# EAGLE library part OSD3358-PARTS (library OSD3358-BAS-2)
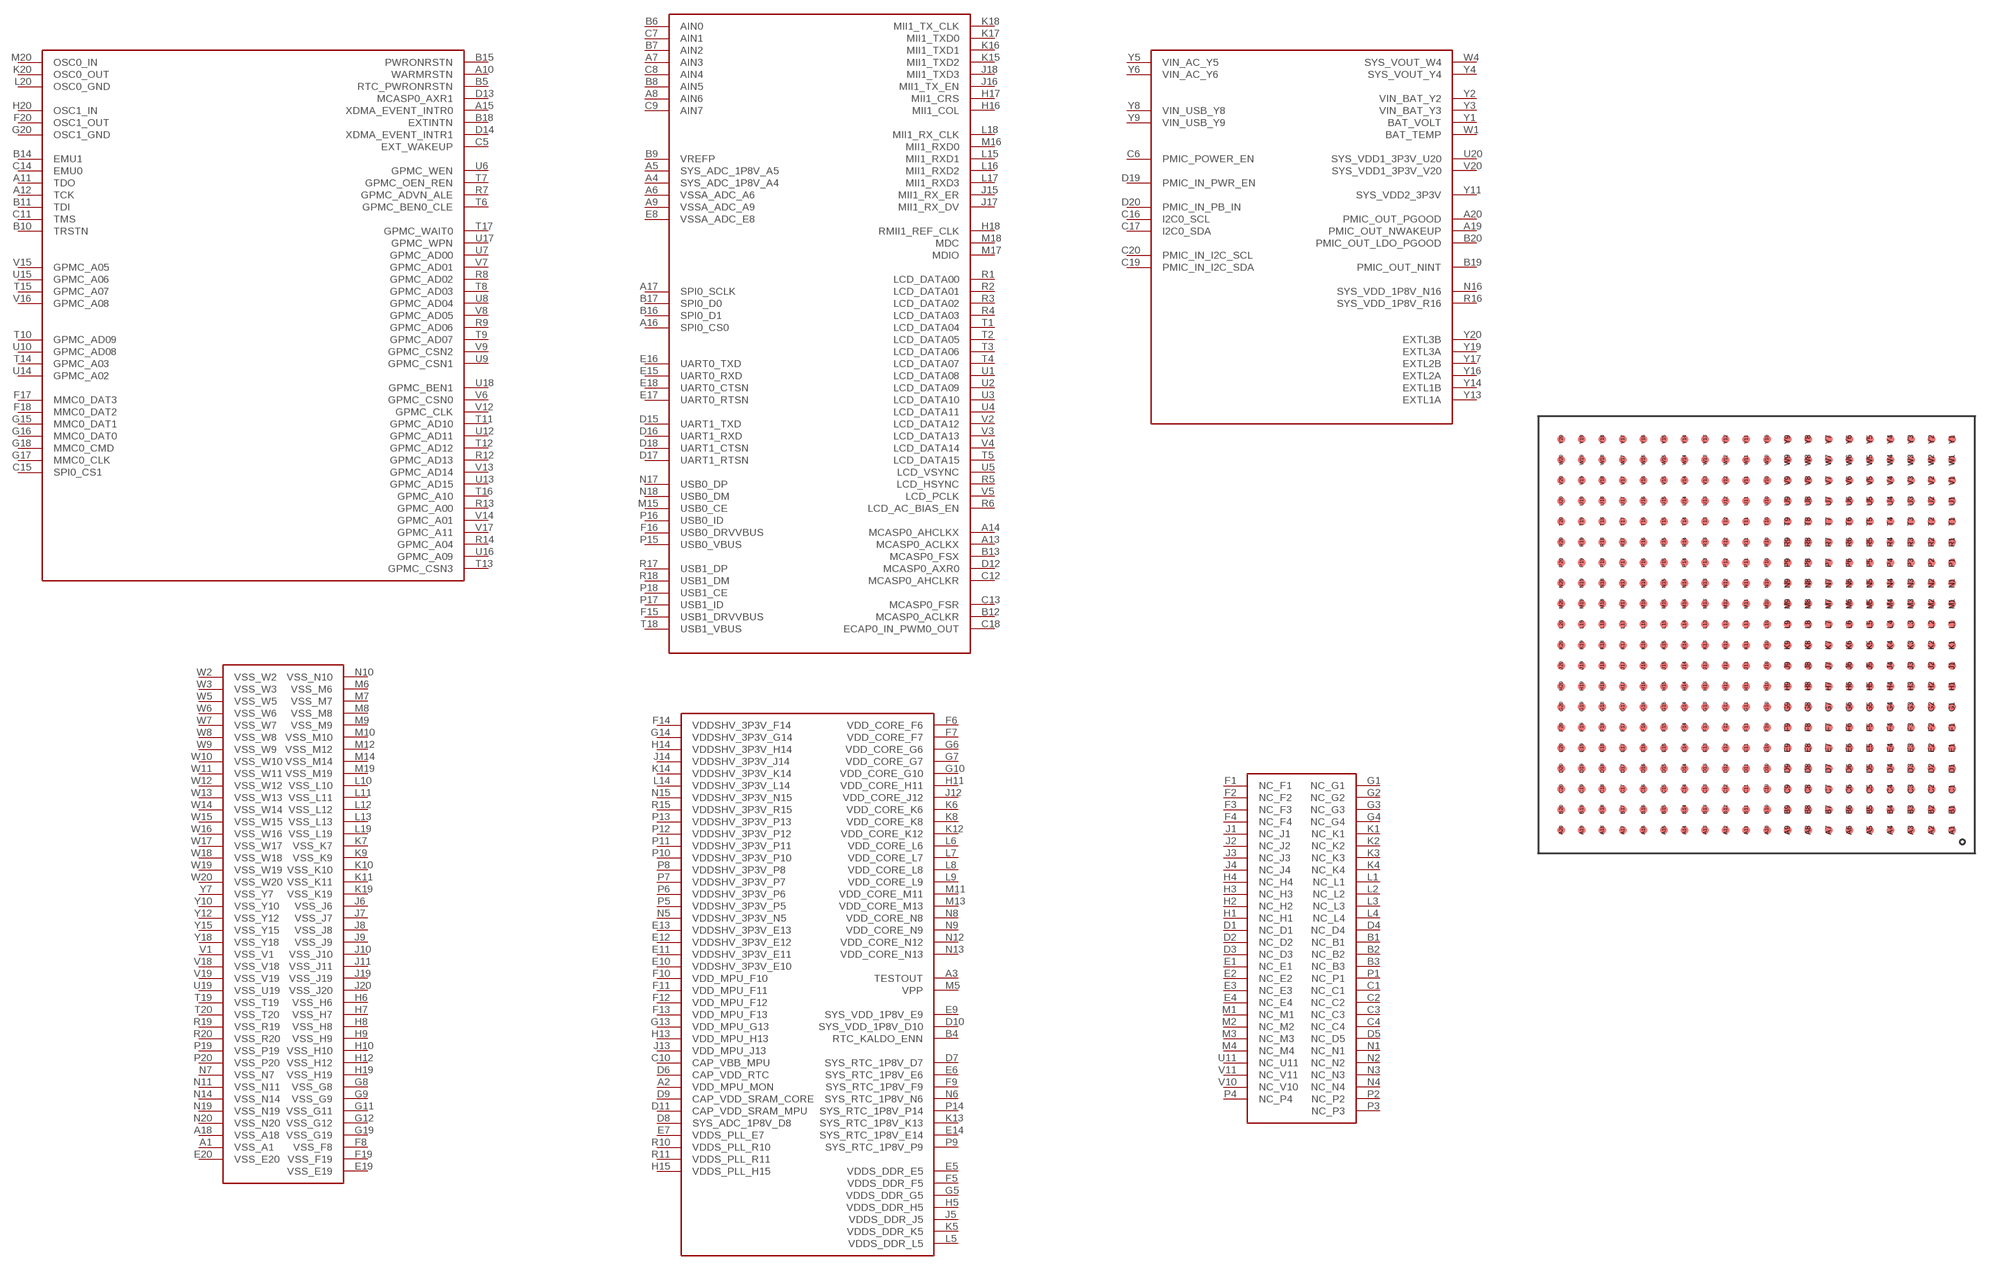
[diagram p1: symbol with the pads of BGA400; footprint BGA400]

Designator prefix -; gates G$1=OSD3358-A G$2=OSD3358-B G$3=OSD3358-C G$4=OSD3358-D G$5=OSD3358-E G$6=OSD3358-F

## OSD3358-PARTS  [BGA400]
A1  G$4:VSS_A1
A2  G$5:VDD_MPU_MON
A3  G$5:TESTOUT
A4  G$2:SYS_ADC_1P8V_A4
A5  G$2:SYS_ADC_1P8V_A5
A6  G$2:VSSA_ADC_A6
A7  G$2:AIN3
A8  G$2:AIN6
A9  G$2:VSSA_ADC_A9
A10  G$1:WARMRSTN
A11  G$1:TDO
A12  G$1:TCK
A13  G$2:MCASP0_ACLKX
A14  G$2:MCASP0_AHCLKX
A15  G$1:XDMA_EVENT_INTR0
A16  G$2:SPI0_CS0
A17  G$2:SPI0_SCLK
A18  G$4:VSS_A18
A19  G$3:PMIC_OUT_NWAKEUP
A20  G$3:PMIC_OUT_PGOOD
B1  G$6:NC_B1
B2  G$6:NC_B2
B3  G$6:NC_B3
B4  G$5:RTC_KALDO_ENN
B5  G$1:RTC_PWRONRSTN
B6  G$2:AIN0
B7  G$2:AIN2
B8  G$2:AIN5
B9  G$2:VREFP
B10  G$1:TRSTN
B11  G$1:TDI
B12  G$2:MCASP0_ACLKR
B13  G$2:MCASP0_FSX
B14  G$1:EMU1
B15  G$1:PWRONRSTN
B16  G$2:SPI0_D1
B17  G$2:SPI0_D0
B18  G$1:EXTINTN
B19  G$3:PMIC_OUT_NINT
B20  G$3:PMIC_OUT_LDO_PGOOD
C1  G$6:NC_C1
C2  G$6:NC_C2
C3  G$6:NC_C3
C4  G$6:NC_C4
C5  G$1:EXT_WAKEUP
C6  G$3:PMIC_POWER_EN
C7  G$2:AIN1
C8  G$2:AIN4
C9  G$2:AIN7
C10  G$5:CAP_VBB_MPU
C11  G$1:TMS
C12  G$2:MCASP0_AHCLKR
C13  G$2:MCASP0_FSR
C14  G$1:EMU0
C15  G$1:SPI0_CS1
C16  G$3:I2C0_SCL
C17  G$3:I2C0_SDA
C18  G$2:ECAP0_IN_PWM0_OUT
C19  G$3:PMIC_IN_I2C_SDA
C20  G$3:PMIC_IN_I2C_SCL
D1  G$6:NC_D1
D2  G$6:NC_D2
D3  G$6:NC_D3
D4  G$6:NC_D4
D5  G$6:NC_D5
D6  G$5:CAP_VDD_RTC
D7  G$5:SYS_RTC_1P8V_D7
D8  G$5:SYS_ADC_1P8V_D8
D9  G$5:CAP_VDD_SRAM_CORE
D10  G$5:SYS_VDD_1P8V_D10
D11  G$5:CAP_VDD_SRAM_MPU
D12  G$2:MCASP0_AXR0
D13  G$1:MCASP0_AXR1
D14  G$1:XDMA_EVENT_INTR1
D15  G$2:UART1_TXD
D16  G$2:UART1_RXD
D17  G$2:UART1_RTSN
D18  G$2:UART1_CTSN
D19  G$3:PMIC_IN_PWR_EN
D20  G$3:PMIC_IN_PB_IN
E1  G$6:NC_E1
E2  G$6:NC_E2
E3  G$6:NC_E3
E4  G$6:NC_E4
E5  G$5:VDDS_DDR_E5
E6  G$5:SYS_RTC_1P8V_E6
E7  G$5:VDDS_PLL_E7
E8  G$2:VSSA_ADC_E8
E9  G$5:SYS_VDD_1P8V_E9
E10  G$5:VDDSHV_3P3V_E10
E11  G$5:VDDSHV_3P3V_E11
E12  G$5:VDDSHV_3P3V_E12
E13  G$5:VDDSHV_3P3V_E13
E14  G$5:SYS_RTC_1P8V_E14
E15  G$2:UART0_RXD
E16  G$2:UART0_TXD
E17  G$2:UART0_RTSN
E18  G$2:UART0_CTSN
E19  G$4:VSS_E19
E20  G$4:VSS_E20
F1  G$6:NC_F1
F2  G$6:NC_F2
F3  G$6:NC_F3
F4  G$6:NC_F4
F5  G$5:VDDS_DDR_F5
F6  G$5:VDD_CORE_F6
F7  G$5:VDD_CORE_F7
F8  G$4:VSS_F8
F9  G$5:SYS_RTC_1P8V_F9
F10  G$5:VDD_MPU_F10
F11  G$5:VDD_MPU_F11
F12  G$5:VDD_MPU_F12
F13  G$5:VDD_MPU_F13
F14  G$5:VDDSHV_3P3V_F14
F15  G$2:USB1_DRVVBUS
F16  G$2:USB0_DRVVBUS
F17  G$1:MMC0_DAT3
F18  G$1:MMC0_DAT2
F19  G$4:VSS_F19
F20  G$1:OSC1_OUT
G1  G$6:NC_G1
G2  G$6:NC_G2
G3  G$6:NC_G3
G4  G$6:NC_G4
G5  G$5:VDDS_DDR_G5
G6  G$5:VDD_CORE_G6
G7  G$5:VDD_CORE_G7
G8  G$4:VSS_G8
G9  G$4:VSS_G9
G10  G$5:VDD_CORE_G10
G11  G$4:VSS_G11
G12  G$4:VSS_G12
G13  G$5:VDD_MPU_G13
G14  G$5:VDDSHV_3P3V_G14
G15  G$1:MMC0_DAT1
G16  G$1:MMC0_DAT0
G17  G$1:MMC0_CLK
G18  G$1:MMC0_CMD
G19  G$4:VSS_G19
G20  G$1:OSC1_GND
H1  G$6:NC_H1
H2  G$6:NC_H2
H3  G$6:NC_H3
H4  G$6:NC_H4
H5  G$5:VDDS_DDR_H5
H6  G$4:VSS_H6
H7  G$4:VSS_H7
H8  G$4:VSS_H8
H9  G$4:VSS_H9
H10  G$4:VSS_H10
H11  G$5:VDD_CORE_H11
H12  G$4:VSS_H12
H13  G$5:VDD_MPU_H13
H14  G$5:VDDSHV_3P3V_H14
H15  G$5:VDDS_PLL_H15
H16  G$2:MII1_COL
H17  G$2:MII1_CRS
H18  G$2:RMII1_REF_CLK
H19  G$4:VSS_H19
H20  G$1:OSC1_IN
J1  G$6:NC_J1
J2  G$6:NC_J2
J3  G$6:NC_J3
J4  G$6:NC_J4
J5  G$5:VDDS_DDR_J5
J6  G$4:VSS_J6
J7  G$4:VSS_J7
J8  G$4:VSS_J8
J9  G$4:VSS_J9
J10  G$4:VSS_J10
J11  G$4:VSS_J11
J12  G$5:VDD_CORE_J12
J13  G$5:VDD_MPU_J13
J14  G$5:VDDSHV_3P3V_J14
J15  G$2:MII1_RX_ER
J16  G$2:MII1_TX_EN
J17  G$2:MII1_RX_DV
J18  G$2:MII1_TXD3
J19  G$4:VSS_J19
J20  G$4:VSS_J20
K1  G$6:NC_K1
K2  G$6:NC_K2
K3  G$6:NC_K3
K4  G$6:NC_K4
K5  G$5:VDDS_DDR_K5
K6  G$5:VDD_CORE_K6
K7  G$4:VSS_K7
K8  G$5:VDD_CORE_K8
K9  G$4:VSS_K9
K10  G$4:VSS_K10
K11  G$4:VSS_K11
K12  G$5:VDD_CORE_K12
K13  G$5:SYS_RTC_1P8V_K13
K14  G$5:VDDSHV_3P3V_K14
K15  G$2:MII1_TXD2
K16  G$2:MII1_TXD1
K17  G$2:MII1_TXD0
K18  G$2:MII1_TX_CLK
K19  G$4:VSS_K19
K20  G$1:OSC0_OUT
L1  G$6:NC_L1
L2  G$6:NC_L2
L3  G$6:NC_L3
L4  G$6:NC_L4
L5  G$5:VDDS_DDR_L5
L6  G$5:VDD_CORE_L6
L7  G$5:VDD_CORE_L7
L8  G$5:VDD_CORE_L8
L9  G$5:VDD_CORE_L9
L10  G$4:VSS_L10
L11  G$4:VSS_L11
L12  G$4:VSS_L12
L13  G$4:VSS_L13
L14  G$5:VDDSHV_3P3V_L14
L15  G$2:MII1_RXD1
L16  G$2:MII1_RXD2
L17  G$2:MII1_RXD3
L18  G$2:MII1_RX_CLK
L19  G$4:VSS_L19
L20  G$1:OSC0_GND
M1  G$6:NC_M1
M2  G$6:NC_M2
M3  G$6:NC_M3
M4  G$6:NC_M4
M5  G$5:VPP
M6  G$4:VSS_M6
M7  G$4:VSS_M7
M8  G$4:VSS_M8
M9  G$4:VSS_M9
M10  G$4:VSS_M10
M11  G$5:VDD_CORE_M11
M12  G$4:VSS_M12
M13  G$5:VDD_CORE_M13
M14  G$4:VSS_M14
M15  G$2:USB0_CE
M16  G$2:MII1_RXD0
M17  G$2:MDIO
M18  G$2:MDC
M19  G$4:VSS_M19
M20  G$1:OSC0_IN
N1  G$6:NC_N1
N2  G$6:NC_N2
N3  G$6:NC_N3
N4  G$6:NC_N4
N5  G$5:VDDSHV_3P3V_N5
N6  G$5:SYS_RTC_1P8V_N6
N7  G$4:VSS_N7
N8  G$5:VDD_CORE_N8
N9  G$5:VDD_CORE_N9
N10  G$4:VSS_N10
N11  G$4:VSS_N11
N12  G$5:VDD_CORE_N12
N13  G$5:VDD_CORE_N13
N14  G$4:VSS_N14
N15  G$5:VDDSHV_3P3V_N15
N16  G$3:SYS_VDD_1P8V_N16
N17  G$2:USB0_DP
N18  G$2:USB0_DM
N19  G$4:VSS_N19
N20  G$4:VSS_N20
P1  G$6:NC_P1
P2  G$6:NC_P2
P3  G$6:NC_P3
P4  G$6:NC_P4
P5  G$5:VDDSHV_3P3V_P5
P6  G$5:VDDSHV_3P3V_P6
P7  G$5:VDDSHV_3P3V_P7
P8  G$5:VDDSHV_3P3V_P8
P9  G$5:SYS_RTC_1P8V_P9
P10  G$5:VDDSHV_3P3V_P10
P11  G$5:VDDSHV_3P3V_P11
P12  G$5:VDDSHV_3P3V_P12
P13  G$5:VDDSHV_3P3V_P13
P14  G$5:SYS_RTC_1P8V_P14
P15  G$2:USB0_VBUS
P16  G$2:USB0_ID
P17  G$2:USB1_ID
P18  G$2:USB1_CE
P19  G$4:VSS_P19
P20  G$4:VSS_P20
R1  G$2:LCD_DATA00
R2  G$2:LCD_DATA01
R3  G$2:LCD_DATA02
R4  G$2:LCD_DATA03
R5  G$2:LCD_HSYNC
R6  G$2:LCD_AC_BIAS_EN
R7  G$1:GPMC_ADVN_ALE
R8  G$1:GPMC_AD02
R9  G$1:GPMC_AD06
R10  G$5:VDDS_PLL_R10
R11  G$5:VDDS_PLL_R11
R12  G$1:GPMC_AD13
R13  G$1:GPMC_A00
R14  G$1:GPMC_A04
R15  G$5:VDDSHV_3P3V_R15
R16  G$3:SYS_VDD_1P8V_R16
R17  G$2:USB1_DP
R18  G$2:USB1_DM
R19  G$4:VSS_R19
R20  G$4:VSS_R20
T1  G$2:LCD_DATA04
T2  G$2:LCD_DATA05
T3  G$2:LCD_DATA06
T4  G$2:LCD_DATA07
T5  G$2:LCD_DATA15
T6  G$1:GPMC_BEN0_CLE
T7  G$1:GPMC_OEN_REN
T8  G$1:GPMC_AD03
T9  G$1:GPMC_AD07
T10  G$1:GPMC_AD09
T11  G$1:GPMC_AD10
T12  G$1:GPMC_AD12
T13  G$1:GPMC_CSN3
T14  G$1:GPMC_A03
T15  G$1:GPMC_A07
T16  G$1:GPMC_A10
T17  G$1:GPMC_WAIT0
T18  G$2:USB1_VBUS
T19  G$4:VSS_T19
T20  G$4:VSS_T20
U1  G$2:LCD_DATA08
U2  G$2:LCD_DATA09
U3  G$2:LCD_DATA10
U4  G$2:LCD_DATA11
U5  G$2:LCD_VSYNC
U6  G$1:GPMC_WEN
U7  G$1:GPMC_AD00
U8  G$1:GPMC_AD04
U9  G$1:GPMC_CSN1
U10  G$1:GPMC_AD08
U11  G$6:NC_U11
U12  G$1:GPMC_AD11
U13  G$1:GPMC_AD15
U14  G$1:GPMC_A02
U15  G$1:GPMC_A06
U16  G$1:GPMC_A09
U17  G$1:GPMC_WPN
U18  G$1:GPMC_BEN1
U19  G$4:VSS_U19
U20  G$3:SYS_VDD1_3P3V_U20
V1  G$4:VSS_V1
V2  G$2:LCD_DATA12
V3  G$2:LCD_DATA13
V4  G$2:LCD_DATA14
V5  G$2:LCD_PCLK
V6  G$1:GPMC_CSN0
V7  G$1:GPMC_AD01
V8  G$1:GPMC_AD05
V9  G$1:GPMC_CSN2
V10  G$6:NC_V10
V11  G$6:NC_V11
V12  G$1:GPMC_CLK
V13  G$1:GPMC_AD14
V14  G$1:GPMC_A01
V15  G$1:GPMC_A05
V16  G$1:GPMC_A08
V17  G$1:GPMC_A11
V18  G$4:VSS_V18
V19  G$4:VSS_V19
V20  G$3:SYS_VDD1_3P3V_V20
W1  G$3:BAT_TEMP
W2  G$4:VSS_W2
W3  G$4:VSS_W3
W4  G$3:SYS_VOUT_W4
W5  G$4:VSS_W5
W6  G$4:VSS_W6
W7  G$4:VSS_W7
W8  G$4:VSS_W8
W9  G$4:VSS_W9
W10  G$4:VSS_W10
W11  G$4:VSS_W11
W12  G$4:VSS_W12
W13  G$4:VSS_W13
W14  G$4:VSS_W14
W15  G$4:VSS_W15
W16  G$4:VSS_W16
W17  G$4:VSS_W17
W18  G$4:VSS_W18
W19  G$4:VSS_W19
W20  G$4:VSS_W20
Y1  G$3:BAT_VOLT
Y2  G$3:VIN_BAT_Y2
Y3  G$3:VIN_BAT_Y3
Y4  G$3:SYS_VOUT_Y4
Y5  G$3:VIN_AC_Y5
Y6  G$3:VIN_AC_Y6
Y7  G$4:VSS_Y7
Y8  G$3:VIN_USB_Y8
Y9  G$3:VIN_USB_Y9
Y10  G$4:VSS_Y10
Y11  G$3:SYS_VDD2_3P3V
Y12  G$4:VSS_Y12
Y13  G$3:EXTL1A
Y14  G$3:EXTL1B
Y15  G$4:VSS_Y15
Y16  G$3:EXTL2A
Y17  G$3:EXTL2B
Y18  G$4:VSS_Y18
Y19  G$3:EXTL3A
Y20  G$3:EXTL3B

## Footprint BGA400 (pad centres in mm)
smd 0.5 x 0.5: A1 12.065,-12.065; A2 10.795,-12.065; A3 9.525,-12.065; A4 8.255,-12.065; A5 6.985,-12.065; A6 5.715,-12.065; A7 4.445,-12.065; A8 3.175,-12.065; A9 1.905,-12.065; A10 0.635,-12.065; A11 -0.635,-12.065; A12 -1.905,-12.065; A13 -3.175,-12.065; A14 -4.445,-12.065; A15 -5.715,-12.065; A16 -6.985,-12.065; A17 -8.255,-12.065; A18 -9.525,-12.065; A19 -10.795,-12.065; A20 -12.065,-12.065; B1 12.065,-10.795; B2 10.795,-10.795; B3 9.525,-10.795; B4 8.255,-10.795; B5 6.985,-10.795; B6 5.715,-10.795; B7 4.445,-10.795; B8 3.175,-10.795; B9 1.905,-10.795; B10 0.635,-10.795; B11 -0.635,-10.795; B12 -1.905,-10.795; B13 -3.175,-10.795; B14 -4.445,-10.795; B15 -5.715,-10.795; B16 -6.985,-10.795; B17 -8.255,-10.795; B18 -9.525,-10.795; B19 -10.795,-10.795; B20 -12.065,-10.795; C1 12.065,-9.525; C2 10.795,-9.525; C3 9.525,-9.525; C4 8.255,-9.525; C5 6.985,-9.525; C6 5.715,-9.525; C7 4.445,-9.525; C8 3.175,-9.525; C9 1.905,-9.525; C10 0.635,-9.525; C11 -0.635,-9.525; C12 -1.905,-9.525; C13 -3.175,-9.525; C14 -4.445,-9.525; C15 -5.715,-9.525; C16 -6.985,-9.525; C17 -8.255,-9.525; C18 -9.525,-9.525; C19 -10.795,-9.525; C20 -12.065,-9.525; D1 12.065,-8.255; D2 10.795,-8.255; D3 9.525,-8.255; D4 8.255,-8.255; D5 6.985,-8.255; D6 5.715,-8.255; D7 4.445,-8.255; D8 3.175,-8.255; D9 1.905,-8.255; D10 0.635,-8.255; D11 -0.635,-8.255; D12 -1.905,-8.255; D13 -3.175,-8.255; D14 -4.445,-8.255; D15 -5.715,-8.255; D16 -6.985,-8.255; D17 -8.255,-8.255; D18 -9.525,-8.255; D19 -10.795,-8.255; D20 -12.065,-8.255; E1 12.065,-6.985; E2 10.795,-6.985; E3 9.525,-6.985; E4 8.255,-6.985; E5 6.985,-6.985; E6 5.715,-6.985; E7 4.445,-6.985; E8 3.175,-6.985; E9 1.905,-6.985; E10 0.635,-6.985; E11 -0.635,-6.985; E12 -1.905,-6.985; E13 -3.175,-6.985; E14 -4.445,-6.985; E15 -5.715,-6.985; E16 -6.985,-6.985; E17 -8.255,-6.985; E18 -9.525,-6.985; E19 -10.795,-6.985; E20 -12.065,-6.985; F1 12.065,-5.715; F2 10.795,-5.715; F3 9.525,-5.715; F4 8.255,-5.715; F5 6.985,-5.715; F6 5.715,-5.715; F7 4.445,-5.715; F8 3.175,-5.715; F9 1.905,-5.715; F10 0.635,-5.715; F11 -0.635,-5.715; F12 -1.905,-5.715; F13 -3.175,-5.715; F14 -4.445,-5.715; F15 -5.715,-5.715; F16 -6.985,-5.715; F17 -8.255,-5.715; F18 -9.525,-5.715; F19 -10.795,-5.715; F20 -12.065,-5.715; G1 12.065,-4.445; G2 10.795,-4.445; G3 9.525,-4.445; G4 8.255,-4.445; G5 6.985,-4.445; G6 5.715,-4.445; G7 4.445,-4.445; G8 3.175,-4.445; G9 1.905,-4.445; G10 0.635,-4.445; G11 -0.635,-4.445; G12 -1.905,-4.445; G13 -3.175,-4.445; G14 -4.445,-4.445; G15 -5.715,-4.445; G16 -6.985,-4.445; G17 -8.255,-4.445; G18 -9.525,-4.445; G19 -10.795,-4.445; G20 -12.065,-4.445; H1 12.065,-3.175; H2 10.795,-3.175; H3 9.525,-3.175; H4 8.255,-3.175; H5 6.985,-3.175; H6 5.715,-3.175; H7 4.445,-3.175; H8 3.175,-3.175; H9 1.905,-3.175; H10 0.635,-3.175; H11 -0.635,-3.175; H12 -1.905,-3.175; H13 -3.175,-3.175; H14 -4.445,-3.175; H15 -5.715,-3.175; H16 -6.985,-3.175; H17 -8.255,-3.175; H18 -9.525,-3.175; H19 -10.795,-3.175; H20 -12.065,-3.175; J1 12.065,-1.905; J2 10.795,-1.905; J3 9.525,-1.905; J4 8.255,-1.905; J5 6.985,-1.905; J6 5.715,-1.905; J7 4.445,-1.905; J8 3.175,-1.905; J9 1.905,-1.905; J10 0.635,-1.905; J11 -0.635,-1.905; J12 -1.905,-1.905; J13 -3.175,-1.905; J14 -4.445,-1.905; J15 -5.715,-1.905; J16 -6.985,-1.905; J17 -8.255,-1.905; J18 -9.525,-1.905; J19 -10.795,-1.905; J20 -12.065,-1.905; K1 12.065,-0.635; K2 10.795,-0.635; K3 9.525,-0.635; K4 8.255,-0.635; K5 6.985,-0.635; K6 5.715,-0.635; K7 4.445,-0.635; K8 3.175,-0.635; K9 1.905,-0.635; K10 0.635,-0.635; K11 -0.635,-0.635; K12 -1.905,-0.635; K13 -3.175,-0.635; K14 -4.445,-0.635; K15 -5.715,-0.635; K16 -6.985,-0.635; K17 -8.255,-0.635; K18 -9.525,-0.635; K19 -10.795,-0.635; K20 -12.065,-0.635; L1 12.065,0.635; L2 10.795,0.635; L3 9.525,0.635; L4 8.255,0.635; L5 6.985,0.635; L6 5.715,0.635; L7 4.445,0.635; L8 3.175,0.635; L9 1.905,0.635; L10 0.635,0.635; L11 -0.635,0.635; L12 -1.905,0.635; L13 -3.175,0.635; L14 -4.445,0.635; L15 -5.715,0.635; L16 -6.985,0.635; L17 -8.255,0.635; L18 -9.525,0.635; L19 -10.795,0.635; L20 -12.065,0.635; M1 12.065,1.905; M2 10.795,1.905; M3 9.525,1.905; M4 8.255,1.905; M5 6.985,1.905; M6 5.715,1.905; M7 4.445,1.905; M8 3.175,1.905; M9 1.905,1.905; M10 0.635,1.905; M11 -0.635,1.905; M12 -1.905,1.905; M13 -3.175,1.905; M14 -4.445,1.905; M15 -5.715,1.905; M16 -6.985,1.905; M17 -8.255,1.905; M18 -9.525,1.905; M19 -10.795,1.905; M20 -12.065,1.905; N1 12.065,3.175; N2 10.795,3.175; N3 9.525,3.175; N4 8.255,3.175; N5 6.985,3.175; N6 5.715,3.175; N7 4.445,3.175; N8 3.175,3.175; N9 1.905,3.175; N10 0.635,3.175; N11 -0.635,3.175; N12 -1.905,3.175; N13 -3.175,3.175; N14 -4.445,3.175; N15 -5.715,3.175; N16 -6.985,3.175; N17 -8.255,3.175; N18 -9.525,3.175; N19 -10.795,3.175; N20 -12.065,3.175; P1 12.065,4.445; P2 10.795,4.445; P3 9.525,4.445; P4 8.255,4.445; P5 6.985,4.445; P6 5.715,4.445; P7 4.445,4.445; P8 3.175,4.445; P9 1.905,4.445; P10 0.635,4.445; P11 -0.635,4.445; P12 -1.905,4.445; P13 -3.175,4.445; P14 -4.445,4.445; P15 -5.715,4.445; P16 -6.985,4.445; P17 -8.255,4.445; P18 -9.525,4.445; P19 -10.795,4.445; P20 -12.065,4.445; R1 12.065,5.715; R2 10.795,5.715; R3 9.525,5.715; R4 8.255,5.715; R5 6.985,5.715; R6 5.715,5.715; R7 4.445,5.715; R8 3.175,5.715; R9 1.905,5.715; R10 0.635,5.715; R11 -0.635,5.715; R12 -1.905,5.715; R13 -3.175,5.715; R14 -4.445,5.715; R15 -5.715,5.715; R16 -6.985,5.715; R17 -8.255,5.715; R18 -9.525,5.715; R19 -10.795,5.715; R20 -12.065,5.715; T1 12.065,6.985; T2 10.795,6.985; T3 9.525,6.985; T4 8.255,6.985; T5 6.985,6.985; T6 5.715,6.985; T7 4.445,6.985; T8 3.175,6.985; T9 1.905,6.985; T10 0.635,6.985; T11 -0.635,6.985; T12 -1.905,6.985; T13 -3.175,6.985; T14 -4.445,6.985; T15 -5.715,6.985; T16 -6.985,6.985; T17 -8.255,6.985; T18 -9.525,6.985; T19 -10.795,6.985; T20 -12.065,6.985; U1 12.065,8.255; U2 10.795,8.255; U3 9.525,8.255; U4 8.255,8.255; U5 6.985,8.255; U6 5.715,8.255; U7 4.445,8.255; U8 3.175,8.255; U9 1.905,8.255; U10 0.635,8.255; U11 -0.635,8.255; U12 -1.905,8.255; U13 -3.175,8.255; U14 -4.445,8.255; U15 -5.715,8.255; U16 -6.985,8.255; U17 -8.255,8.255; U18 -9.525,8.255; U19 -10.795,8.255; U20 -12.065,8.255; V1 12.065,9.525; V2 10.795,9.525; V3 9.525,9.525; V4 8.255,9.525; V5 6.985,9.525; V6 5.715,9.525; V7 4.445,9.525; V8 3.175,9.525; V9 1.905,9.525; V10 0.635,9.525; V11 -0.635,9.525; V12 -1.905,9.525; V13 -3.175,9.525; V14 -4.445,9.525; V15 -5.715,9.525; V16 -6.985,9.525; V17 -8.255,9.525; V18 -9.525,9.525; V19 -10.795,9.525; V20 -12.065,9.525; W1 12.065,10.795; W2 10.795,10.795; W3 9.525,10.795; W4 8.255,10.795; W5 6.985,10.795; W6 5.715,10.795; W7 4.445,10.795; W8 3.175,10.795; W9 1.905,10.795; W10 0.635,10.795; W11 -0.635,10.795; W12 -1.905,10.795; W13 -3.175,10.795; W14 -4.445,10.795; W15 -5.715,10.795; W16 -6.985,10.795; W17 -8.255,10.795; W18 -9.525,10.795; W19 -10.795,10.795; W20 -12.065,10.795; Y1 12.065,12.065; Y2 10.795,12.065; Y3 9.525,12.065; Y4 8.255,12.065; Y5 6.985,12.065; Y6 5.715,12.065; Y7 4.445,12.065; Y8 3.175,12.065; Y9 1.905,12.065; Y10 0.635,12.065; Y11 -0.635,12.065; Y12 -1.905,12.065; Y13 -3.175,12.065; Y14 -4.445,12.065; Y15 -5.715,12.065; Y16 -6.985,12.065; Y17 -8.255,12.065; Y18 -9.525,12.065; Y19 -10.795,12.065; Y20 -12.065,12.065